# EAGLE library part DS2401P+ (library DS2401P+)
A one wire serial number chip.
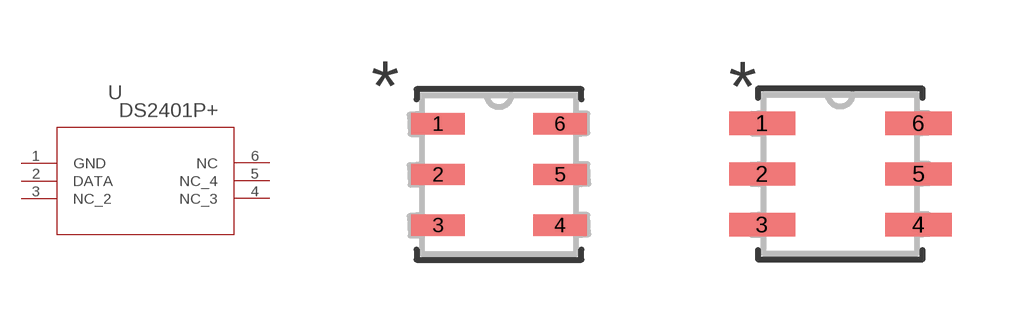
[diagram p0: symbol with the pads of 21-0382; footprints 21-0382, 21-0382-M]

Designator prefix U

## DS2401P+ (DIGIKEY: DS2401P+-ND; MANUFACTURER: Maxim Integrated; MPN: DS2401P+)  [21-0382]
1  GND  pwr
2  DATA  in
3  NC_2  nc
4  NC_3  nc
5  NC_4  nc
6  NC  nc

## DS2401P+21-0382-M (MANUFACTURER_PART_NUMBER: DS2401P+; VENDOR: Maxim Integrated Products)  [21-0382-M]
Pads as for 21-0382

## DS2401P+21-0382-L (MANUFACTURER_PART_NUMBER: DS2401P+; VENDOR: Maxim Integrated Products)  [21-0382-L]
Pads as for 21-0382

## Footprint 21-0382 (pad centres in mm)
smd 1.346 x 0.533: 1 -1.525,1.27; 2 -1.525,0; 3 -1.525,-1.27; 4 1.525,-1.27; 5 1.525,0; 6 1.525,1.27

## Footprint 21-0382-M (pad centres in mm)
smd 1.651 x 0.584: 1 -1.956,1.27; 2 -1.956,0; 3 -1.956,-1.27; 4 1.956,-1.27; 5 1.956,0; 6 1.956,1.27

## Footprint 21-0382-L (pad centres in mm)
smd 1.143 x 0.483: 1 -1.803,1.27; 2 -1.803,0; 3 -1.803,-1.27; 4 1.803,-1.27; 5 1.803,0; 6 1.803,1.27